# Altium footprint library MDM-25.PcbLib: 1 footprints
Each footprint in its own frame and in the unit in brackets; x right, y up, seen from the top. Pads: shape width x height; smd on the part's side, far side on the other; paste and mask are expansions set on the pad; w line width, h text height; cw(c..) or ccw(c..) is an arc to the next point about the centre after c.
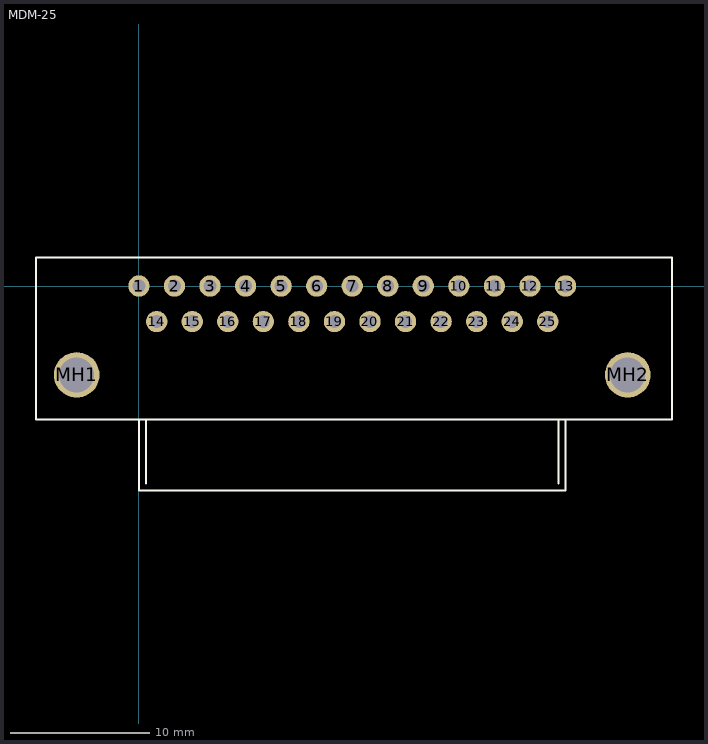
[diagram p0: the footprint, top view; thin cyan lines are the x and y axes]

## MDM-25 [mil]
pads (27):
  round 60 hole 36: 1(0,0) 2(100,0) 3(200,0) 4(300,0) 5(400,0) 6(500,0) 7(600,0) 8(700,0) 9(800,0) 10(900,0) 11(1000,0) 12(1100,0) 13(1200,0) 14(50,-100) 15(150,-100) 16(250,-100) 17(350,-100) 18(450,-100) 19(550,-100) 20(650,-100) 21(750,-100) 22(850,-100) 23(950,-100) 24(1050,-100) 25(1150,-100)
  round 128 hole 98.43: MH1(-175,-250) MH2(1375,-250)
Top Overlay:
  lines w6: 20,-555 20,-375 ; 400,-375 0,-375 0,-575 1200,-575 1200,-375 ; 1180,-555 1180,-375 ; -290,-375 1500,-375 1500,80 -290,80 -290,-375
3D body: height 275.59, standoff 0, extent -290,-370 1500,80